# Altium schematic symbol library MI0805K601R-10.SchLib: 1 symbol
Pins are listed as number, name and electrical type; pins without a type are passive.

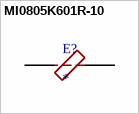
[diagram p0: symbol MI0805K601R-10]

## MI0805K601R-10
designator E?
600 Ohms @ 100MHz 1 Power Line Ferrite Bead 0805 (2012 Metric) 1.5A 100mOhm; MP: MI0805K601R-10; MF: Laird-Signal Integrity; Price: None; SnapEDA_Link: https://www.snapeda.com/parts/MI0805K601R-10/Laird-Signal%20Integrity%20Products/view-part/332699/?ref=snap; Purchase-URL: https://pricing.snapeda.com/search/part/MI0805K601R-10/?ref=eda; Value: *; Availability: Warning; Package: 0805 Laird; Check_prices: https://www.snapeda.com/parts/MI0805K601R-10/Laird-Signal%20Integrity%20Products/view-part/332699/?ref=eda
footprint FB_MI0805K601R-10
pins: 1, 2